# EAGLE library part EM4095 (library em-microelectronic)
Read/Write analog front end for 125kHz RFID Basestation Source: http://www.emmicroelectronic.com/webfiles/Product/RFID/DS/EM4095_DS.pdf
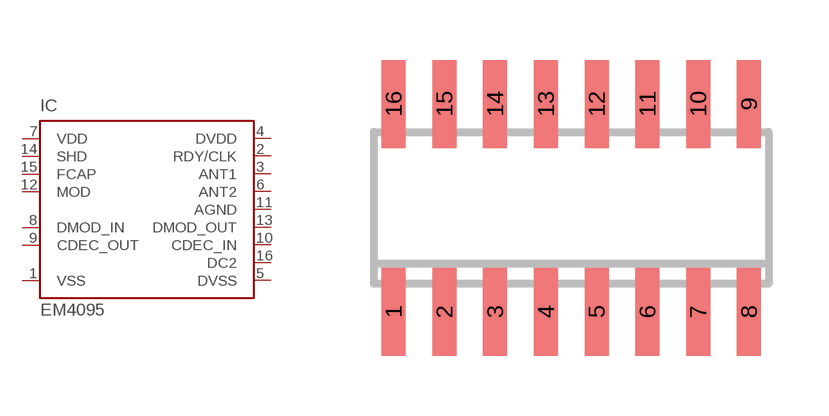
[diagram p0: symbol with the pads of SO16; footprint SO16]

Designator prefix IC

## EM4095  [SO16]
1  VSS  pwr
2  RDY/CLK  out
3  ANT1  pas
4  DVDD  pwr
5  DVSS  pwr
6  ANT2  pas
7  VDD  pwr
8  DMOD_IN  in
9  CDEC_OUT  out
10  CDEC_IN  in
11  AGND  pwr
12  MOD  in
13  DMOD_OUT  out
14  SHD  in
15  FCAP  pas
16  DC2  pas

## Footprint SO16 (pad centres in mm)
SMALL OUTLINE INTEGRATED CIRCUIT body 3.9 mm/JEDEC MS-012AC
smd 0.6 x 2.2: 1 -4.445,-2.6; 2 -3.175,-2.6; 3 -1.905,-2.6; 4 -0.635,-2.6; 5 0.635,-2.6; 6 1.905,-2.6; 7 3.175,-2.6; 8 4.445,-2.6; 9 4.445,2.6; 10 3.175,2.6; 11 1.905,2.6; 12 0.635,2.6; 13 -0.635,2.6; 14 -1.905,2.6; 15 -3.175,2.6; 16 -4.445,2.6